# Altium footprint library CMM3729_memsMIC.PcbLib: 1 footprints
Each footprint in its own frame and in the unit in brackets; x right, y up, seen from the top. Pads: shape width x height; smd on the part's side, far side on the other; paste and mask are expansions set on the pad; w line width, h text height; cw(c..) or ccw(c..) is an arc to the next point about the centre after c.
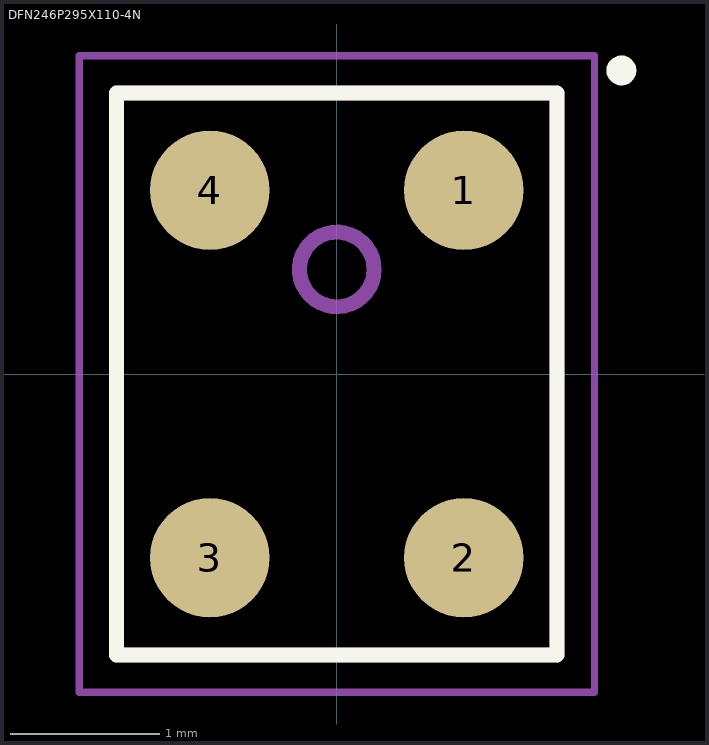
[diagram p0: the footprint, top view; thin cyan lines are the x and y axes]

## DFN246P295X110-4N [mm] "DFN, 4-Leads, Body 3,76x2,95mm, Pitch 2,46mm, IPC Medium Density"
height 1.1
pads (4):
  round 0.8 smd: 1(0.85,1.23) 2(0.85,-1.23) 3(-0.85,-1.23) 4(-0.85,1.23)
Top Overlay:
  circle w0.1: c1.905,2.032 r0.05
  lines w0.1: -1.475,-1.88 1.475,-1.88 1.475,1.88 -1.475,1.88 -1.475,-1.88
Mechanical 13:
  lines w0.1: -1.475,-1.88 -1.475,1.88 1.475,1.88 1.475,-1.88 -1.475,-1.88
Mechanical 15:
  circle w0.1: c0,0.7 r0.25
  lines w0.05: -1.725,-2.13 -1.725,2.13 1.725,2.13 1.725,-2.13 -1.725,-2.13
3D body: height 1.1, standoff 0, extent -1.475,-1.88 1.475,1.88